# Altium footprint library MOV.PcbLib: 4 footprints
Each footprint in its own frame and in the unit in brackets; x right, y up, seen from the top. Pads: shape width x height; smd on the part's side, far side on the other; paste and mask are expansions set on the pad; w line width, h text height; cw(c..) or ccw(c..) is an arc to the next point about the centre after c.
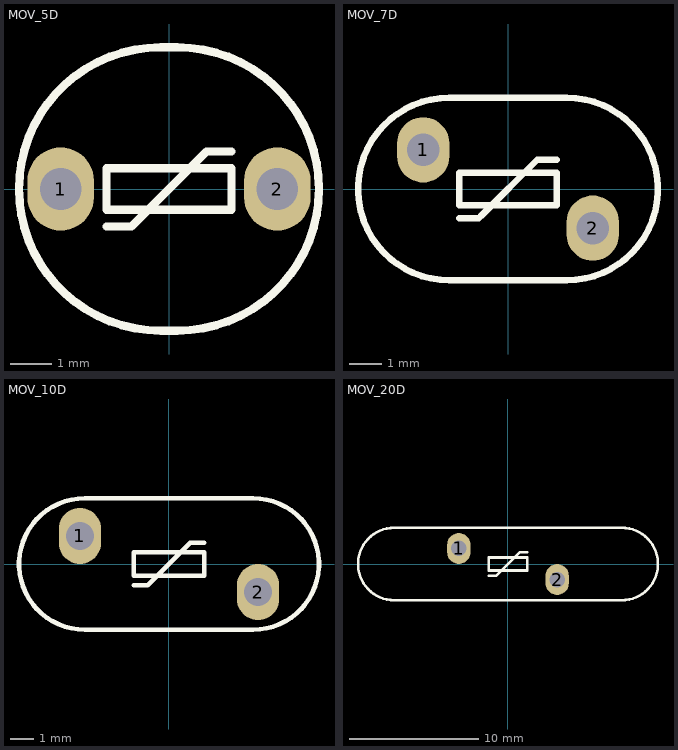
[diagram p0: the footprints below, top view; thin cyan lines are the x and y axes]

## MOV_5D [mm] "VDR, VARISTOR, 7X6.5, pitch: 5.0mm"
pads (2):
  oval 1.6x2 hole 1: 1(-2.6,0) 2(2.6,0)
Top Overlay:
  lines w0.2: -1.5,-0.9 -0.9,-0.9 -0.8,-0.8 0.9,0.9 1.5,0.9 ; -1.5,-0.5 -1.5,0.5 1.5,0.5 1.5,-0.5 -1.5,-0.5 ; -0.2,-3.4 cw(c-0.2,0) -0.2,3.4 0.2,3.4 cw(c0.2,0) 0.2,-3.4 -0.2,-3.4
3D body "MOV5D_vdrs05bke.SLDPRT": height 11, standoff -3, extent -3.498,-3.25 3.498,3.25

## MOV_7D [mm] "VDR, VARISTOR, 9X5.6, pitch: 5.0mm, 275VAC(RMS)"
pads (2):
  oval 1.6x2 hole 1: 1(-2.6,1.2) 2(2.6,-1.2)
Top Overlay:
  lines w0.2: -1.5,-0.9 -0.9,-0.9 -0.8,-0.8 0.9,0.9 1.5,0.9 ; -1.8,-2.8 cw(c-1.8,0) -1.8,2.8 1.8,2.8 cw(c1.8,0) 1.8,-2.8 -1.8,-2.8 ; -1.5,-0.5 1.5,-0.5 1.5,0.5 -1.5,0.5 -1.5,-0.5
3D body "MOV7D-Varistor 7mm.SLDPRT": height 12.5, standoff -2.5, extent -4.494,-2.8 4.494,2.8

## MOV_10D [mm] "VDR, VARISTOR, 12.5X5.6, pitch: 7.6mm, 420VAC(RMS)"
pads (2):
  oval 1.8x2.4 hole 1.2: 1(-3.8,1.2) 2(3.8,-1.2)
Top Overlay:
  lines w0.2: -1.5,-0.9 -0.9,-0.9 -0.8,-0.8 0.9,0.9 1.5,0.9 ; -3.6,-2.8 cw(c-3.6,0) -3.6,2.8 3.6,2.8 cw(c3.6,0) 3.6,-2.8 -3.6,-2.8 ; -1.5,-0.5 -1.5,0.5 1.5,0.5 1.5,-0.5 -1.5,-0.5
3D body "MOV10D-Varistor 10mm.SLDPRT": height 16.25, standoff -2.75, extent -6.245,-2.8 6.245,2.8

## MOV_20D [mm] "VDR, VARISTOR, 23X5.6mm, pitch: 7.6mm, MOV-07DxxxK Metal Oxide Varistor (MOVs)"
pads (2):
  oval 1.8x2.4 hole 1.2: 1(-3.8,1.2) 2(3.8,-1.2)
Top Overlay:
  lines w0.2: -1.5,-0.9 -0.9,-0.9 -0.8,-0.8 0.9,0.9 1.5,0.9 ; -8.8,-2.8 cw(c-8.8,0) -8.8,2.8 8.8,2.8 cw(c8.8,0) 8.8,-2.8 -8.8,-2.8 ; -1.5,-0.5 -1.5,0.5 1.5,0.5 1.5,-0.5 -1.5,-0.5
3D body "MOV20D-Varistor 20mm.SLDPRT": height 26.5, standoff -3, extent -11.492,-2.8 11.492,2.8